# Altium footprint library 电池接触板.PcbLib: 2 footprints
Each footprint in its own frame and in the unit in brackets; x right, y up, seen from the top. Pads: shape width x height; smd on the part's side, far side on the other; paste and mask are expansions set on the pad; w line width, h text height; cw(c..) or ccw(c..) is an arc to the next point about the centre after c.
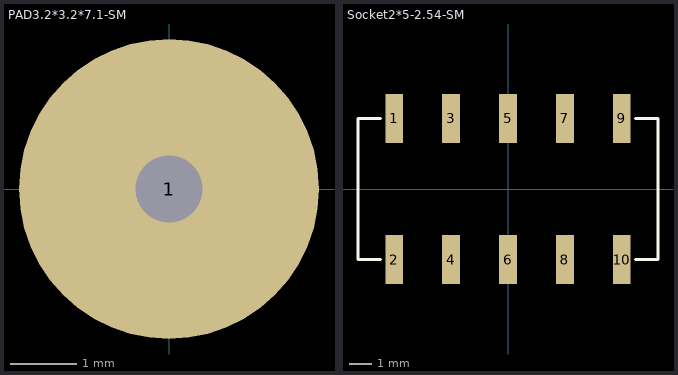
[diagram p0: the footprints below, top view; thin cyan lines are the x and y axes]

## PAD3.2*3.2*7.1-SM [mm] "直径3.2mm 高7.1mm 带弹簧端子"
height 7.1
pads (1):
  round 4.5 hole 1: 1(0,0)
3D body: height 7, standoff 0, extent -1.6,-1.6 1.6,1.6

## Socket2*5-2.54-SM [mm] "2.54间距 2*5 表贴 直 座"
height 9.07
pads (10):
  rect 0.8x2.2 smd: 1(-5.08,3.15) 2(-5.08,-3.15) 3(-2.54,3.15) 4(-2.54,-3.15) 5(0,3.15) 6(0,-3.15) 7(2.54,3.15) 8(2.54,-3.15) 9(5.08,3.15) 10(5.08,-3.15)
Top Overlay:
  lines w0.127: -5.7,-3.15 -6.7,-3.15 -6.7,3.15 -5.7,3.15 ; 5.7,-3.15 6.7,-3.15 6.7,3.15 5.7,3.15
3D body: height 9.1, standoff 0, extent -6.625,-3.575 6.625,3.575